# EAGLE library part RF430FRL154HCRGER (library TIRF430FRLNFC)
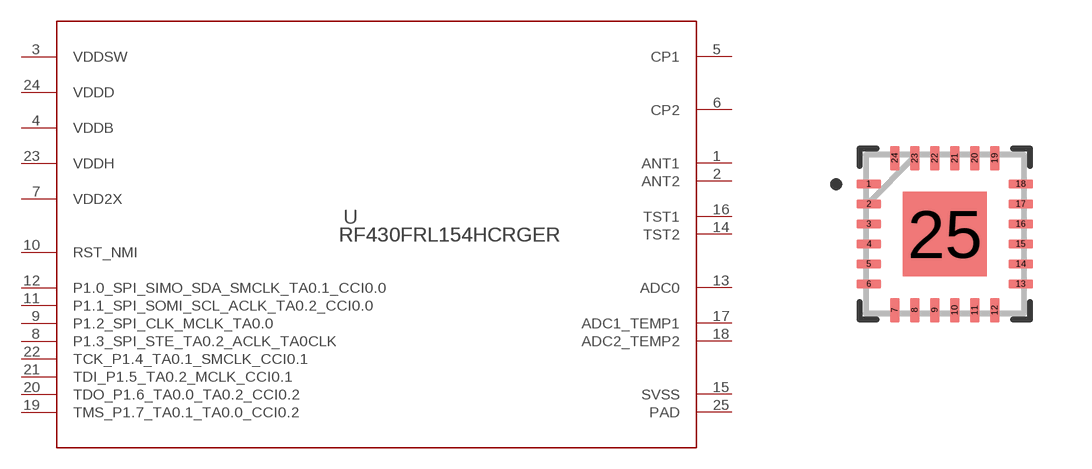
[diagram p0: symbol with the pads of RGE0024C; footprint RGE0024C]

Designator prefix U

## RF430FRL154HCRGER (MANUFACTURER_PART_NUMBER: RF430FRL154HCRGER; VENDOR: Texas Instruments)  [RGE0024C]
1  ANT1  in
2  ANT2  in
3  VDDSW  pwr
4  VDDB  pwr
5  CP1  pas
6  CP2  pas
7  VDD2X  pwr
8  P1.3_SPI_STE_TA0.2_ACLK_TA0CLK
9  P1.2_SPI_CLK_MCLK_TA0.0
10  RST_NMI  in
11  P1.1_SPI_SOMI_SCL_ACLK_TA0.2_CCI0.0
12  P1.0_SPI_SIMO_SDA_SMCLK_TA0.1_CCI0.0
13  ADC0  in
14  TST2  in
15  SVSS  pwr
16  TST1  in
17  ADC1_TEMP1  in
18  ADC2_TEMP2  in
19  TMS_P1.7_TA0.1_TA0.0_CCI0.2
20  TDO_P1.6_TA0.0_TA0.2_CCI0.2
21  TDI_P1.5_TA0.2_MCLK_CCI0.1
22  TCK_P1.4_TA0.1_SMCLK_CCI0.1
23  VDDH  pwr
24  VDDD  pwr
25  PAD  pwr

## Footprint RGE0024C (pad centres in mm)
smd 0.61 x 0.229: 1 -1.9,1.25; 2 -1.9,0.75; 3 -1.9,0.25; 4 -1.9,-0.25; 5 -1.9,-0.75; 6 -1.9,-1.25; 13 1.9,-1.25; 14 1.9,-0.75; 15 1.9,-0.25; 16 1.9,0.25; 17 1.9,0.75; 18 1.9,1.25
smd 0.229 x 0.61: 7 -1.25,-1.9; 8 -0.75,-1.9; 9 -0.25,-1.9; 10 0.25,-1.9; 11 0.75,-1.9; 12 1.25,-1.9; 19 1.25,1.9; 20 0.75,1.9; 21 0.25,1.9; 22 -0.25,1.9; 23 -0.75,1.9; 24 -1.25,1.9
smd 2.108 x 2.108: 25 0,0